# Altium schematic symbol library Transistors.SchLib: 5 symbols
Pins are listed as number, name and electrical type; pins without a type are passive.

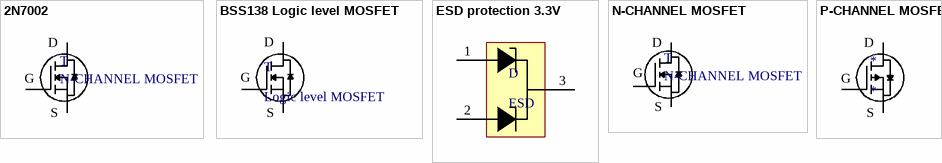
[diagram p0: symbols 2N7002 to P-CHANNEL MOSFET]

## 2N7002
designator T, comment N-CHANNEL MOSFET
footprint 2N7002 (N-CHANNEL MOSFET)
pins: 1 G, 2 S, 3 D

## BSS138 Logic level MOSFET
designator T, comment Logic level MOSFET
footprint BSS138 Logic level MOSFET (SOT23, 3-Leads, Body 2,92x2,40mm, Pitch 0,95mm, IPC Medium Density)
pins: 1 G, 2 S, 3 D

## ESD protection 3.3V
designator D, comment ESD
PESD3V3S2UAT
footprint ESD protection (SOT23, 3-Leads, Body 2.90x2.30mm, Pitch 0.95mm, IPC Medium Density)
pins: 1, 2, 3

## N-CHANNEL MOSFET
designator T
footprint N-CHANNEL MOSFET (BSS138)
pins: 1 G, 2 S, 3 D

## P-CHANNEL MOSFET
designator *
footprint P-CHANNEL MOSFET (TSOP, 6-Leads, Body 2,90x1,50mm, Pitch 0,95mm, IPC Medium Density)
pins: 1 G, 2 S, 3 D